# Altium footprint library 29_to_100_Pin.PcbLib: 41 footprints (part 3 of 3)
Each footprint in its own frame and in the unit in brackets; x right, y up, seen from the top. Pads: shape width x height; smd on the part's side, far side on the other; paste and mask are expansions set on the pad; w line width, h text height; cw(c..) or ccw(c..) is an arc to the next point about the centre after c.
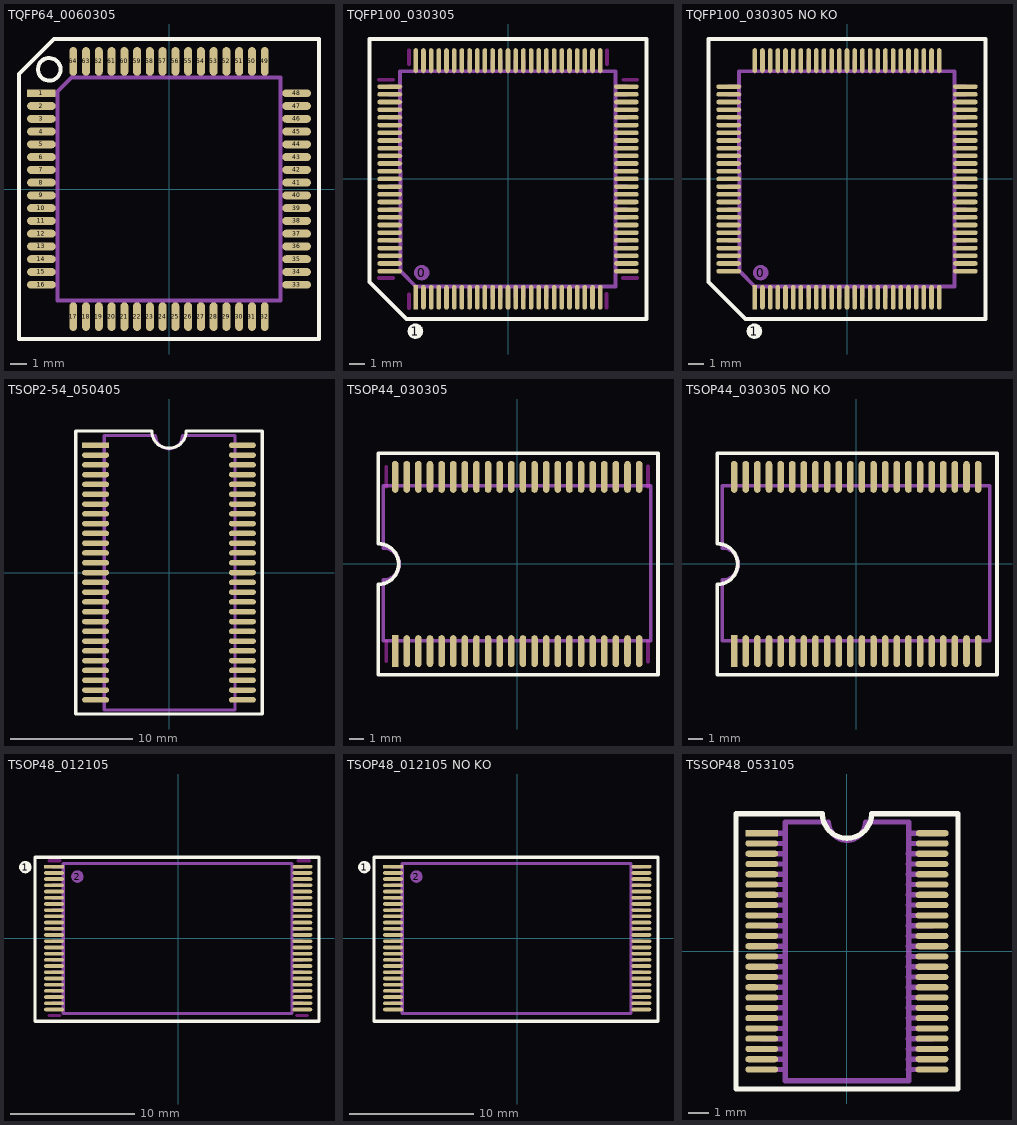
[diagram p2: the footprints below, top view; thin cyan lines are the x and y axes]

## TQFP64_0060305 [mm] "SMT"
height 1.27
pads (64):
  rect 1.8x0.5 smd mask+0.038: 1(-8,6)
  oval 1.8x0.5 smd mask+0.038: 2(-8,5.2) 3(-8,4.4) 4(-8,3.6) 5(-8,2.8) 6(-8,2) 7(-8,1.2) 8(-8,0.4) 9(-8,-0.4) 10(-8,-1.2) 11(-8,-2) 12(-8,-2.8) 13(-8,-3.6) 14(-8,-4.4) 15(-8,-5.2) 16(-8,-6) 33(8,-6) 34(8,-5.2) 35(8,-4.4) 36(8,-3.6) 37(8,-2.8) 38(8,-2) 39(8,-1.2) 40(8,-0.4) 41(8,0.4) 42(8,1.2) 43(8,2) 44(8,2.8) 45(8,3.6) 46(8,4.4) 47(8,5.2) 48(8,6)
  oval 0.5x1.8 smd mask+0.038: 17(-6,-8) 18(-5.2,-8) 19(-4.4,-8) 20(-3.6,-8) 21(-2.8,-8) 22(-2,-8) 23(-1.2,-8) 24(-0.4,-8) 25(0.4,-8) 26(1.2,-8) 27(2,-8) 28(2.8,-8) 29(3.6,-8) 30(4.4,-8) 31(5.2,-8) 32(6,-8) 49(6,8) 50(5.2,8) 51(4.4,8) 52(3.6,8) 53(2.8,8) 54(2,8) 55(1.2,8) 56(0.4,8) 57(-0.4,8) 58(-1.2,8) 59(-2,8) 60(-2.8,8) 61(-3.6,8) 62(-4.4,8) 63(-5.2,8) 64(-6,8)
Top Overlay:
  circle w0.254: c-7.507,7.5 r0.707
  lines w0.254: -9.4,-9.4 -9.4,0 -9.4,7.2 -7.2,9.4 0,9.4 9.4,9.4 9.4,0 9.4,-9.4 0,-9.4 -9.4,-9.4
Assembly:
  lines w0.254: -8,-6 -7,-6 ; -8,-5.2 -7,-5.2 ; -8,-4.4 -7,-4.4 ; -8,-3.6 -7,-3.6 ; -8,-2.8 -7,-2.8 ; -8,-2 -7,-2 ; -8,-1.2 -7,-1.2 ; -8,-0.4 -7,-0.4 ; -8,0.4 -7,0.4 ; -8,1.2 -7,1.2 ; -8,2 -7,2 ; -8,2.8 -7,2.8 ; -8,3.6 -7,3.6 ; -8,4.4 -7,4.4 ; -8,5.2 -7,5.2 ; -8,6 -7,6 ; -6,-8 -6,-7 ; -6,7 -6,8 ; -5.2,-8 -5.2,-7 ; -5.2,7 -5.2,8 ; -4.4,-8 -4.4,-7 ; -4.4,7 -4.4,8 ; -3.6,-8 -3.6,-7 ; -3.6,7 -3.6,8 ; -2.8,-8 -2.8,-7 ; -2.8,7 -2.8,8 ; -2,-8 -2,-7 ; -2,7 -2,8 ; -1.2,-8 -1.2,-7 ; -1.2,7 -1.2,8 ; -0.4,-8 -0.4,-7 ; -0.4,7 -0.4,8 ; 0.4,-8 0.4,-7 ; 0.4,7 0.4,8 ; 1.2,-8 1.2,-7 ; 1.2,7 1.2,8 ; 2,-8 2,-7 ; 2,7 2,8 ; 2.8,-8 2.8,-7 ; 2.8,7 2.8,8 ; 3.6,-8 3.6,-7 ; 3.6,7 3.6,8 ; 4.4,-8 4.4,-7 ; 4.4,7 4.4,8 ; 5.2,-8 5.2,-7 ; 5.2,7 5.2,8 ; 6,-8 6,-7 ; 6,7 6,8 ; 7,-6 8,-6 ; 7,-5.2 8,-5.2 ; 7,-4.4 8,-4.4 ; 7,-3.6 8,-3.6 ; 7,-2.8 8,-2.8 ; 7,-2 8,-2 ; 7,-1.2 8,-1.2 ; 7,-0.4 8,-0.4 ; 7,0 7,-7 ; 7,0.4 8,0.4 ; 7,1.2 8,1.2 ; 7,2 8,2 ; 7,2.8 8,2.8 ; 7,3.6 8,3.6 ; 7,4.4 8,4.4 ; 7,5.2 8,5.2 ; 7,6 8,6 ; 7,-7 7,7 -6.1,7 -7,6.1 -7,5.7 -7,-7 7,-7
Assembly Designator:
  text ".Designator" at -1.93,-0.635 h1.52
Assembly Comment:
  text ".Comment" at -6.223,-3.175 h1.52

## TQFP100_030305 [mm] "SM FP"
height 1.27
pads (102):
  round 1.016 on Mech1 mask+0.038: 0(-5.613,-6.096)
  round 1.016 on Top Overlay mask+0.038: 1(-6.02,-9.906)
  rect 0.3x1.6 smd mask+0.038: 1(-6,-7.7)
  oval 0.3x1.6 smd mask+0.038: 2(-5.5,-7.7) 3(-5,-7.7) 4(-4.5,-7.7) 5(-4,-7.7) 6(-3.5,-7.7) 7(-3,-7.7) 8(-2.5,-7.7) 9(-2,-7.7) 10(-1.5,-7.7) 11(-1,-7.7) 12(-0.5,-7.7) 13(0,-7.7) 14(0.5,-7.7) 15(1,-7.7) 16(1.5,-7.7) 17(2,-7.7) 18(2.5,-7.7) 19(3,-7.7) 20(3.5,-7.7) 21(4,-7.7) 22(4.5,-7.7) 23(5,-7.7) 24(5.5,-7.7) 25(6,-7.7) 51(6,7.7) 52(5.5,7.7) 53(5,7.7) 54(4.5,7.7) 55(4,7.7) 56(3.5,7.7) 57(3,7.7) 58(2.5,7.7) 59(2,7.7) 60(1.5,7.7) 61(1,7.7) 62(0.5,7.7) 63(0,7.7) 64(-0.5,7.7) 65(-1,7.7) 66(-1.5,7.7) 67(-2,7.7) 68(-2.5,7.7) 69(-3,7.7) 70(-3.5,7.7) 71(-4,7.7) 72(-4.5,7.7) 73(-5,7.7) 74(-5.5,7.7) 75(-6,7.7)
  oval 1.6x0.3 smd mask+0.038: 26(7.7,-6) 27(7.7,-5.5) 28(7.7,-5) 29(7.7,-4.5) 30(7.7,-4) 31(7.7,-3.5) 32(7.7,-3) 33(7.7,-2.5) 34(7.7,-2) 35(7.7,-1.5) 36(7.7,-1) 37(7.7,-0.5) 38(7.7,0) 39(7.7,0.5) 40(7.7,1) 41(7.7,1.5) 42(7.7,2) 43(7.7,2.5) 44(7.7,3) 45(7.7,3.5) 46(7.7,4) 47(7.7,4.5) 48(7.7,5) 49(7.7,5.5) 50(7.7,6) 76(-7.7,6) 77(-7.7,5.5) 78(-7.7,5) 79(-7.7,4.5) 80(-7.7,4) 81(-7.7,3.5) 82(-7.7,3) 83(-7.7,2.5) 84(-7.7,2) 85(-7.7,1.5) 86(-7.7,1) 87(-7.7,0.5) 88(-7.7,0) 89(-7.7,-0.5) 90(-7.7,-1) 91(-7.7,-1.5) 92(-7.7,-2) 93(-7.7,-2.5) 94(-7.7,-3) 95(-7.7,-3.5) 96(-7.7,-4) 97(-7.7,-4.5) 98(-7.7,-5) 99(-7.7,-5.5) 100(-7.7,-6)
Top Layer keep-out:
  lines w0.254: -8.382,-6.452 -7.493,-6.452 ; -8.382,6.452 -7.493,6.452 ; -6.452,-8.407 -6.452,-7.518 ; -6.452,7.468 -6.452,8.357 ; 6.401,-8.382 6.401,-7.493 ; 6.452,7.468 6.452,8.357 ; 7.493,-6.452 8.382,-6.452 ; 7.518,6.452 8.407,6.452
Top Overlay:
  lines w0.254: -9,-5.9 -9,9.1 9,9.1 9,-9.1 -6.6,-9.1 -9,-6.7 -9,-4.5
Assembly:
  lines w0.254: -7.7,-6 -6.998,-6 ; -7.7,-5.5 -6.998,-5.5 ; -7.7,-5 -6.998,-5 ; -7.7,-4.5 -6.998,-4.5 ; -7.7,-4 -6.998,-4 ; -7.7,-3.5 -6.998,-3.5 ; -7.7,-3 -6.998,-3 ; -7.7,-2.5 -6.998,-2.5 ; -7.7,-2 -6.998,-2 ; -7.7,-1.5 -6.998,-1.5 ; -7.7,-1 -6.998,-1 ; -7.7,-0.5 -6.998,-0.5 ; -7.7,0 -6.998,0 ; -7.7,0.5 -6.998,0.5 ; -7.7,1 -6.998,1 ; -7.7,1.5 -6.998,1.5 ; -7.7,2 -6.998,2 ; -7.7,2.5 -6.998,2.5 ; -7.7,3 -6.998,3 ; -7.7,3.5 -6.998,3.5 ; -7.7,4 -6.998,4 ; -7.7,4.5 -6.998,4.5 ; -7.7,5 -6.998,5 ; -7.7,5.5 -6.998,5.5 ; -7.7,6 -6.998,6 ; -6,-7.7 -6,-6.998 ; -6,6.998 -6,7.7 ; -5.5,-7.7 -5.5,-6.998 ; -5.5,6.998 -5.5,7.7 ; -5,-7.7 -5,-6.998 ; -5,6.998 -5,7.7 ; -4.5,-7.7 -4.5,-6.998 ; -4.5,6.998 -4.5,7.7 ; -4,-7.7 -4,-6.998 ; -4,6.998 -4,7.7 ; -3.5,-7.7 -3.5,-6.998 ; -3.5,6.998 -3.5,7.7 ; -3,-7.7 -3,-6.998 ; -3,6.998 -3,7.7 ; -2.5,-7.7 -2.5,-6.998 ; -2.5,6.998 -2.5,7.7 ; -2,-7.7 -2,-6.998 ; -2,6.998 -2,7.7 ; -1.5,-7.7 -1.5,-6.998 ; -1.5,6.998 -1.5,7.7 ; -1,-7.7 -1,-6.998 ; -1,6.998 -1,7.7 ; -0.5,-7.7 -0.5,-6.998 ; -0.5,6.998 -0.5,7.7 ; 0,-7.7 0,-6.998 ; 0,6.998 0,7.7 ; 0.5,-7.7 0.5,-6.998 ; 0.5,6.998 0.5,7.7 ; 1,-7.7 1,-6.998 ; 1,6.998 1,7.7 ; 1.5,-7.7 1.5,-6.998 ; 1.5,6.998 1.5,7.7 ; 2,-7.7 2,-6.998 ; 2,6.998 2,7.7 ; 2.5,6.998 2.5,7.7 ; 2.5,-7.7 2.5,-6.998 ; 3,-7.7 3,-6.998 ; 3,6.998 3,7.7 ; 3.5,-7.7 3.5,-6.998 ; 3.5,6.998 3.5,7.7 ; 4,-7.7 4,-6.998 ; 4,6.998 4,7.7 ; 4.5,-7.7 4.5,-6.998 ; 4.5,6.998 4.5,7.7 ; 5,-7.7 5,-6.998 ; 5,6.998 5,7.7 ; 5.5,-7.7 5.5,-6.998 ; 5.5,6.998 5.5,7.7 ; 6,-7.7 6,-6.998 ; 6,6.998 6,7.7 ; 6.998,-6 7.7,-6 ; 6.998,-5.5 7.7,-5.5 ; 6.998,-5 7.7,-5 ; 6.998,-4.5 7.7,-4.5 ; 6.998,-4 7.7,-4 ; 6.998,-3.5 7.7,-3.5 ; 6.998,-3 7.7,-3 ; 6.998,-2.5 7.7,-2.5 ; 6.998,-2 7.7,-2 ; 6.998,-1.5 7.7,-1.5 ; 6.998,-1 7.7,-1 ; 6.998,-0.5 7.7,-0.5 ; 6.998,0 7.7,0 ; 6.998,0.5 7.7,0.5 ; 6.998,1 7.7,1 ; 6.998,1.5 7.7,1.5 ; 6.998,2 7.7,2 ; 6.998,2.5 7.7,2.5 ; 6.998,3 7.7,3 ; 6.998,3.5 7.7,3.5 ; 6.998,4 7.7,4 ; 6.998,4.5 7.7,4.5 ; 6.998,5 7.7,5 ; 6.998,5.5 7.7,5.5 ; 6.998,6 7.7,6 ; -6.998,-6 -6,-6.998 ; -6.998,-6 -7.017,7.002 6.983,7.002 6.983,-6.998 -6,-6.998 ; -6,-6.998 -6,-6.998
Assembly Designator:
  text ".Designator" at -1.778,-0.635 h1.52
Assembly Comment:
  text ".Comment" at -5.867,-5.08 h1.52

## TQFP100_030305 NO KO [mm] "SM FP"
height 1.27
pads (102):
  round 1.016 on Mech1 mask+0.038: 0(-5.613,-6.096)
  round 1.016 on Top Overlay mask+0.038: 1(-6.02,-9.906)
  rect 0.3x1.6 smd mask+0.038: 1(-6,-7.7)
  oval 0.3x1.6 smd mask+0.038: 2(-5.5,-7.7) 3(-5,-7.7) 4(-4.5,-7.7) 5(-4,-7.7) 6(-3.5,-7.7) 7(-3,-7.7) 8(-2.5,-7.7) 9(-2,-7.7) 10(-1.5,-7.7) 11(-1,-7.7) 12(-0.5,-7.7) 13(0,-7.7) 14(0.5,-7.7) 15(1,-7.7) 16(1.5,-7.7) 17(2,-7.7) 18(2.5,-7.7) 19(3,-7.7) 20(3.5,-7.7) 21(4,-7.7) 22(4.5,-7.7) 23(5,-7.7) 24(5.5,-7.7) 25(6,-7.7) 51(6,7.7) 52(5.5,7.7) 53(5,7.7) 54(4.5,7.7) 55(4,7.7) 56(3.5,7.7) 57(3,7.7) 58(2.5,7.7) 59(2,7.7) 60(1.5,7.7) 61(1,7.7) 62(0.5,7.7) 63(0,7.7) 64(-0.5,7.7) 65(-1,7.7) 66(-1.5,7.7) 67(-2,7.7) 68(-2.5,7.7) 69(-3,7.7) 70(-3.5,7.7) 71(-4,7.7) 72(-4.5,7.7) 73(-5,7.7) 74(-5.5,7.7) 75(-6,7.7)
  oval 1.6x0.3 smd mask+0.038: 26(7.7,-6) 27(7.7,-5.5) 28(7.7,-5) 29(7.7,-4.5) 30(7.7,-4) 31(7.7,-3.5) 32(7.7,-3) 33(7.7,-2.5) 34(7.7,-2) 35(7.7,-1.5) 36(7.7,-1) 37(7.7,-0.5) 38(7.7,0) 39(7.7,0.5) 40(7.7,1) 41(7.7,1.5) 42(7.7,2) 43(7.7,2.5) 44(7.7,3) 45(7.7,3.5) 46(7.7,4) 47(7.7,4.5) 48(7.7,5) 49(7.7,5.5) 50(7.7,6) 76(-7.7,6) 77(-7.7,5.5) 78(-7.7,5) 79(-7.7,4.5) 80(-7.7,4) 81(-7.7,3.5) 82(-7.7,3) 83(-7.7,2.5) 84(-7.7,2) 85(-7.7,1.5) 86(-7.7,1) 87(-7.7,0.5) 88(-7.7,0) 89(-7.7,-0.5) 90(-7.7,-1) 91(-7.7,-1.5) 92(-7.7,-2) 93(-7.7,-2.5) 94(-7.7,-3) 95(-7.7,-3.5) 96(-7.7,-4) 97(-7.7,-4.5) 98(-7.7,-5) 99(-7.7,-5.5) 100(-7.7,-6)
Top Overlay:
  lines w0.254: -9,-5.9 -9,9.1 9,9.1 9,-9.1 -6.6,-9.1 -9,-6.7 -9,-4.5
Assembly:
  lines w0.254: -7.7,-6 -6.998,-6 ; -7.7,-5.5 -6.998,-5.5 ; -7.7,-5 -6.998,-5 ; -7.7,-4.5 -6.998,-4.5 ; -7.7,-4 -6.998,-4 ; -7.7,-3.5 -6.998,-3.5 ; -7.7,-3 -6.998,-3 ; -7.7,-2.5 -6.998,-2.5 ; -7.7,-2 -6.998,-2 ; -7.7,-1.5 -6.998,-1.5 ; -7.7,-1 -6.998,-1 ; -7.7,-0.5 -6.998,-0.5 ; -7.7,0 -6.998,0 ; -7.7,0.5 -6.998,0.5 ; -7.7,1 -6.998,1 ; -7.7,1.5 -6.998,1.5 ; -7.7,2 -6.998,2 ; -7.7,2.5 -6.998,2.5 ; -7.7,3 -6.998,3 ; -7.7,3.5 -6.998,3.5 ; -7.7,4 -6.998,4 ; -7.7,4.5 -6.998,4.5 ; -7.7,5 -6.998,5 ; -7.7,5.5 -6.998,5.5 ; -7.7,6 -6.998,6 ; -6,-7.7 -6,-6.998 ; -6,6.998 -6,7.7 ; -5.5,-7.7 -5.5,-6.998 ; -5.5,6.998 -5.5,7.7 ; -5,-7.7 -5,-6.998 ; -5,6.998 -5,7.7 ; -4.5,-7.7 -4.5,-6.998 ; -4.5,6.998 -4.5,7.7 ; -4,-7.7 -4,-6.998 ; -4,6.998 -4,7.7 ; -3.5,-7.7 -3.5,-6.998 ; -3.5,6.998 -3.5,7.7 ; -3,-7.7 -3,-6.998 ; -3,6.998 -3,7.7 ; -2.5,-7.7 -2.5,-6.998 ; -2.5,6.998 -2.5,7.7 ; -2,-7.7 -2,-6.998 ; -2,6.998 -2,7.7 ; -1.5,-7.7 -1.5,-6.998 ; -1.5,6.998 -1.5,7.7 ; -1,-7.7 -1,-6.998 ; -1,6.998 -1,7.7 ; -0.5,-7.7 -0.5,-6.998 ; -0.5,6.998 -0.5,7.7 ; 0,-7.7 0,-6.998 ; 0,6.998 0,7.7 ; 0.5,-7.7 0.5,-6.998 ; 0.5,6.998 0.5,7.7 ; 1,-7.7 1,-6.998 ; 1,6.998 1,7.7 ; 1.5,-7.7 1.5,-6.998 ; 1.5,6.998 1.5,7.7 ; 2,-7.7 2,-6.998 ; 2,6.998 2,7.7 ; 2.5,6.998 2.5,7.7 ; 2.5,-7.7 2.5,-6.998 ; 3,-7.7 3,-6.998 ; 3,6.998 3,7.7 ; 3.5,-7.7 3.5,-6.998 ; 3.5,6.998 3.5,7.7 ; 4,-7.7 4,-6.998 ; 4,6.998 4,7.7 ; 4.5,-7.7 4.5,-6.998 ; 4.5,6.998 4.5,7.7 ; 5,-7.7 5,-6.998 ; 5,6.998 5,7.7 ; 5.5,-7.7 5.5,-6.998 ; 5.5,6.998 5.5,7.7 ; 6,-7.7 6,-6.998 ; 6,6.998 6,7.7 ; 6.998,-6 7.7,-6 ; 6.998,-5.5 7.7,-5.5 ; 6.998,-5 7.7,-5 ; 6.998,-4.5 7.7,-4.5 ; 6.998,-4 7.7,-4 ; 6.998,-3.5 7.7,-3.5 ; 6.998,-3 7.7,-3 ; 6.998,-2.5 7.7,-2.5 ; 6.998,-2 7.7,-2 ; 6.998,-1.5 7.7,-1.5 ; 6.998,-1 7.7,-1 ; 6.998,-0.5 7.7,-0.5 ; 6.998,0 7.7,0 ; 6.998,0.5 7.7,0.5 ; 6.998,1 7.7,1 ; 6.998,1.5 7.7,1.5 ; 6.998,2 7.7,2 ; 6.998,2.5 7.7,2.5 ; 6.998,3 7.7,3 ; 6.998,3.5 7.7,3.5 ; 6.998,4 7.7,4 ; 6.998,4.5 7.7,4.5 ; 6.998,5 7.7,5 ; 6.998,5.5 7.7,5.5 ; 6.998,6 7.7,6 ; -6.998,-6 -7.017,7.002 6.983,7.002 6.983,-6.998 -6,-6.998 ; -6.998,-6 -6,-6.998 ; -6,-6.998 -6,-6.998
Assembly Designator:
  text ".Designator" at -1.778,-0.635 h1.52
Assembly Comment:
  text ".Comment" at -5.867,-5.08 h1.52

## TSOP2-54_050405 [mm] "SMT"
height 1.905
pads (54):
  rect 2.2x0.45 smd mask+0.038: 1(-6,10.4)
  oval 2.2x0.45 smd mask+0.038: 2(-6,9.6) 3(-6,8.8) 4(-6,8) 5(-6,7.2) 6(-6,6.4) 7(-6,5.6) 8(-6,4.8) 9(-6,4) 10(-6,3.2) 11(-6,2.4) 12(-6,1.6) 13(-6,0.8) 14(-6,0) 15(-6,-0.8) 16(-6,-1.6) 17(-6,-2.4) 18(-6,-3.2) 19(-6,-4) 20(-6,-4.8) 21(-6,-5.6) 22(-6,-6.4) 23(-6,-7.2) 24(-6,-8) 25(-6,-8.8) 26(-6,-9.6) 27(-6,-10.4) 28(6,-10.4) 29(6,-9.6) 30(6,-8.8) 31(6,-8) 32(6,-7.2) 33(6,-6.4) 34(6,-5.6) 35(6,-4.8) 36(6,-4) 37(6,-3.2) 38(6,-2.4) 39(6,-1.6) 40(6,-0.8) 41(6,0) 42(6,0.8) 43(6,1.6) 44(6,2.4) 45(6,3.2) 46(6,4) 47(6,4.8) 48(6,5.6) 49(6,6.4) 50(6,7.2) 51(6,8) 52(6,8.8) 53(6,9.6) 54(6,10.4)
Top Overlay:
  lines w0.254: -7.62,-11.543 7.62,-11.557 7.62,11.303 7.62,11.557 1.397,11.557 cw(c-0.003,11.557) -1.403,11.557 -7.62,11.557 -7.62,-11.543
Assembly:
  lines w0.254: -5.289,-11.241 5.379,-11.241 5.379,11.213 1.1,11.213 cw(c0,11.213) -1.1,11.213 -5.289,11.213 -5.289,-11.241
  lines w0.305: -6.3,-10.4 -5.386,-10.4 ; -6.3,-9.6 -5.386,-9.6 ; -6.3,-8.8 -5.386,-8.8 ; -6.3,-8 -5.386,-8 ; -6.3,-7.2 -5.386,-7.2 ; -6.3,-6.4 -5.386,-6.4 ; -6.3,-5.6 -5.386,-5.6 ; -6.3,-4.8 -5.386,-4.8 ; -6.3,-4 -5.386,-4 ; -6.3,-3.2 -5.386,-3.2 ; -6.3,-2.4 -5.386,-2.4 ; -6.3,-1.6 -5.386,-1.6 ; -6.3,-0.8 -5.386,-0.8 ; -6.3,0 -5.386,0 ; -6.3,0.8 -5.386,0.8 ; -6.3,1.6 -5.386,1.6 ; -6.3,2.4 -5.386,2.4 ; -6.3,3.2 -5.386,3.2 ; -6.3,4 -5.386,4 ; -6.3,4.8 -5.386,4.8 ; -6.3,5.6 -5.386,5.6 ; -6.3,6.4 -5.386,6.4 ; -6.3,7.2 -5.386,7.2 ; -6.3,8 -5.386,8 ; -6.3,8.8 -5.386,8.8 ; -6.3,9.6 -5.386,9.6 ; -6.3,10.4 -5.386,10.4 ; 5.486,-10.4 6.4,-10.4 ; 5.486,-9.6 6.4,-9.6 ; 5.486,-8.8 6.4,-8.8 ; 5.486,-8 6.4,-8 ; 5.486,-7.2 6.4,-7.2 ; 5.486,-6.4 6.4,-6.4 ; 5.486,-5.6 6.4,-5.6 ; 5.486,-4.8 6.4,-4.8 ; 5.486,-4 6.4,-4 ; 5.486,-3.2 6.4,-3.2 ; 5.486,-2.4 6.4,-2.4 ; 5.486,-1.6 6.4,-1.6 ; 5.486,-0.8 6.4,-0.8 ; 5.486,0 6.4,0 ; 5.486,0.8 6.4,0.8 ; 5.486,1.6 6.4,1.6 ; 5.486,2.4 6.4,2.4 ; 5.486,3.2 6.4,3.2 ; 5.486,4 6.4,4 ; 5.486,4.8 6.4,4.8 ; 5.486,5.6 6.4,5.6 ; 5.486,6.4 6.4,6.4 ; 5.486,7.2 6.4,7.2 ; 5.486,8 6.4,8 ; 5.486,8.8 6.4,8.8 ; 5.486,9.6 6.4,9.6 ; 5.486,10.4 6.4,10.4
Assembly Designator:
  text ".Designator" at -1.397,0.025 h1.02
Assembly Comment:
  text ".Comment" at -0.635,3.759 h1.02

## TSOP44_030305 [mm] "SMT"
height 1.27
pads (44):
  rect 0.45x2.2 smd mask+0.038: 1(-8.4,-6)
  oval 0.45x2.2 smd mask+0.038: 2(-7.6,-6) 3(-6.8,-6) 4(-6,-6) 5(-5.2,-6) 6(-4.4,-6) 7(-3.6,-6) 8(-2.8,-6) 9(-2,-6) 10(-1.2,-6) 11(-0.4,-6) 12(0.4,-6) 13(1.2,-6) 14(2,-6) 15(2.8,-6) 16(3.6,-6) 17(4.4,-6) 18(5.2,-6) 19(6,-6) 20(6.8,-6) 21(7.6,-6) 22(8.4,-6) 23(8.4,6) 24(7.6,6) 25(6.8,6) 26(6,6) 27(5.2,6) 28(4.4,6) 29(3.6,6) 30(2.8,6) 31(2,6) 32(1.2,6) 33(0.4,6) 34(-0.4,6) 35(-1.2,6) 36(-2,6) 37(-2.8,6) 38(-3.6,6) 39(-4.4,6) 40(-5.2,6) 41(-6,6) 42(-6.8,6) 43(-7.6,6) 44(-8.4,6)
Top Layer keep-out:
  lines w0.254: -9.017,-6.706 -9.017,-5.309 ; -9.017,5.309 -9.017,6.706 ; 9.017,-6.731 9.017,-5.334 ; 9.017,5.334 9.017,6.731
Top Overlay:
  lines w0.254: -9.557,-7.62 -9.557,-1.403 ccw(c-9.557,-0.003) -9.557,1.397 -9.557,7.62 -9.303,7.62 9.7,7.62 9.7,-7.62 -9.557,-7.62
Assembly:
  lines w0.254: -9.213,-5.289 -9.213,-1.1 ccw(c-9.213,0) -9.213,1.1 -9.213,5.379 9.2,5.379 9.2,-5.289 -9.213,-5.289
  lines w0.305: -8.4,-6.3 -8.4,-5.386 ; -8.4,5.486 -8.4,6.4 ; -7.6,-6.3 -7.6,-5.386 ; -7.6,5.486 -7.6,6.4 ; -6.8,-6.3 -6.8,-5.386 ; -6.8,5.486 -6.8,6.4 ; -6,-6.3 -6,-5.386 ; -6,5.486 -6,6.4 ; -5.2,-6.3 -5.2,-5.386 ; -5.2,5.486 -5.2,6.4 ; -4.4,-6.3 -4.4,-5.386 ; -4.4,5.486 -4.4,6.4 ; -3.6,-6.3 -3.6,-5.386 ; -3.6,5.486 -3.6,6.4 ; -2.8,-6.3 -2.8,-5.386 ; -2.8,5.486 -2.8,6.4 ; -2,-6.3 -2,-5.386 ; -2,5.486 -2,6.4 ; -1.2,-6.3 -1.2,-5.386 ; -1.2,5.486 -1.2,6.4 ; -0.4,-6.3 -0.4,-5.386 ; -0.4,5.486 -0.4,6.4 ; 0.4,-6.3 0.4,-5.386 ; 0.4,5.486 0.4,6.4 ; 1.2,-6.3 1.2,-5.386 ; 1.2,5.486 1.2,6.4 ; 2,-6.3 2,-5.386 ; 2,5.486 2,6.4 ; 2.8,-6.3 2.8,-5.386 ; 2.8,5.486 2.8,6.4 ; 3.6,-6.3 3.6,-5.386 ; 3.6,5.486 3.6,6.4 ; 4.4,-6.3 4.4,-5.386 ; 4.4,5.486 4.4,6.4 ; 5.2,-6.3 5.2,-5.386 ; 5.2,5.486 5.2,6.4 ; 6,-6.3 6,-5.386 ; 6,5.486 6,6.4 ; 6.8,-6.3 6.8,-5.386 ; 6.8,5.486 6.8,6.4 ; 7.6,-6.3 7.6,-5.386 ; 7.6,5.486 7.6,6.4 ; 8.4,-6.3 8.4,-5.386 ; 8.4,5.486 8.4,6.4
Assembly Designator:
  text ".Designator" at -1.88,-0.33 h1.02
Assembly Comment:
  text ".Comment" at -8.179,-4.064 h1.02

## TSOP44_030305 NO KO [mm] "SMT"
height 1.27
pads (44):
  rect 0.45x2.2 smd mask+0.038: 1(-8.4,-6)
  oval 0.45x2.2 smd mask+0.038: 2(-7.6,-6) 3(-6.8,-6) 4(-6,-6) 5(-5.2,-6) 6(-4.4,-6) 7(-3.6,-6) 8(-2.8,-6) 9(-2,-6) 10(-1.2,-6) 11(-0.4,-6) 12(0.4,-6) 13(1.2,-6) 14(2,-6) 15(2.8,-6) 16(3.6,-6) 17(4.4,-6) 18(5.2,-6) 19(6,-6) 20(6.8,-6) 21(7.6,-6) 22(8.4,-6) 23(8.4,6) 24(7.6,6) 25(6.8,6) 26(6,6) 27(5.2,6) 28(4.4,6) 29(3.6,6) 30(2.8,6) 31(2,6) 32(1.2,6) 33(0.4,6) 34(-0.4,6) 35(-1.2,6) 36(-2,6) 37(-2.8,6) 38(-3.6,6) 39(-4.4,6) 40(-5.2,6) 41(-6,6) 42(-6.8,6) 43(-7.6,6) 44(-8.4,6)
Top Overlay:
  lines w0.254: -9.557,-7.62 -9.557,-1.403 ccw(c-9.557,-0.003) -9.557,1.397 -9.557,7.62 -9.303,7.62 9.7,7.62 9.7,-7.62 -9.557,-7.62
Assembly:
  lines w0.254: -9.213,-5.289 -9.213,-1.1 ccw(c-9.213,0) -9.213,1.1 -9.213,5.379 9.2,5.379 9.2,-5.289 -9.213,-5.289
  lines w0.305: -8.4,-6.3 -8.4,-5.386 ; -8.4,5.486 -8.4,6.4 ; -7.6,-6.3 -7.6,-5.386 ; -7.6,5.486 -7.6,6.4 ; -6.8,-6.3 -6.8,-5.386 ; -6.8,5.486 -6.8,6.4 ; -6,-6.3 -6,-5.386 ; -6,5.486 -6,6.4 ; -5.2,-6.3 -5.2,-5.386 ; -5.2,5.486 -5.2,6.4 ; -4.4,-6.3 -4.4,-5.386 ; -4.4,5.486 -4.4,6.4 ; -3.6,-6.3 -3.6,-5.386 ; -3.6,5.486 -3.6,6.4 ; -2.8,-6.3 -2.8,-5.386 ; -2.8,5.486 -2.8,6.4 ; -2,-6.3 -2,-5.386 ; -2,5.486 -2,6.4 ; -1.2,-6.3 -1.2,-5.386 ; -1.2,5.486 -1.2,6.4 ; -0.4,-6.3 -0.4,-5.386 ; -0.4,5.486 -0.4,6.4 ; 0.4,-6.3 0.4,-5.386 ; 0.4,5.486 0.4,6.4 ; 1.2,-6.3 1.2,-5.386 ; 1.2,5.486 1.2,6.4 ; 2,-6.3 2,-5.386 ; 2,5.486 2,6.4 ; 2.8,-6.3 2.8,-5.386 ; 2.8,5.486 2.8,6.4 ; 3.6,-6.3 3.6,-5.386 ; 3.6,5.486 3.6,6.4 ; 4.4,-6.3 4.4,-5.386 ; 4.4,5.486 4.4,6.4 ; 5.2,-6.3 5.2,-5.386 ; 5.2,5.486 5.2,6.4 ; 6,-6.3 6,-5.386 ; 6,5.486 6,6.4 ; 6.8,-6.3 6.8,-5.386 ; 6.8,5.486 6.8,6.4 ; 7.6,-6.3 7.6,-5.386 ; 7.6,5.486 7.6,6.4 ; 8.4,-6.3 8.4,-5.386 ; 8.4,5.486 8.4,6.4
Assembly Designator:
  text ".Designator" at -1.88,-0.33 h1.02
Assembly Comment:
  text ".Comment" at -8.179,-4.064 h1.02

## TSOP48_012105 [mm] "SMT FP"
height 1.27
pads (50):
  round 1.016 on Top Overlay mask+0.038: 1(-12.319,5.715)
  rect 1.6x0.3 smd mask+0.038: 1(-10.008,5.75)
  oval 1.6x0.3 smd mask+0.038: 2(-10.008,5.25) 3(-10.008,4.75) 4(-10.008,4.25) 5(-10.008,3.75) 6(-10.008,3.25) 7(-10.008,2.75) 8(-10.008,2.25) 9(-10.008,1.75) 10(-10.008,1.25) 11(-10.008,0.75) 12(-10.008,0.25) 13(-10.008,-0.25) 14(-10.008,-0.75) 15(-10.008,-1.25) 16(-10.008,-1.75) 17(-10.008,-2.25) 18(-10.008,-2.75) 19(-10.008,-3.25) 20(-10.008,-3.75) 21(-10.008,-4.25) 22(-10.008,-4.75) 23(-10.008,-5.25) 24(-10.008,-5.75) 25(9.992,-5.75) 26(9.992,-5.25) 27(9.992,-4.75) 28(9.992,-4.25) 29(9.992,-3.75) 30(9.992,-3.25) 31(9.992,-2.75) 32(9.992,-2.25) 33(9.992,-1.75) 34(9.992,-1.25) 35(9.992,-0.75) 36(9.992,-0.25) 37(9.992,0.25) 38(9.992,0.75) 39(9.992,1.25) 40(9.992,1.75) 41(9.992,2.25) 42(9.992,2.75) 43(9.992,3.25) 44(9.992,3.75) 45(9.992,4.25) 46(9.992,4.75) 47(9.992,5.25) 48(10.008,5.75)
  round 1.016 on Mech1 mask+0.038: 2(-8.128,4.953)
Top Layer keep-out:
  lines w0.254: -10.414,-6.223 -9.525,-6.223 ; -10.414,6.223 -9.525,6.223 ; 9.525,-6.223 10.414,-6.223 ; 9.652,6.223 10.541,6.223
Top Overlay:
  lines w0.254: -11.532,-6.696 11.328,-6.696 11.328,6.512 10.439,6.512 -9.373,6.512 -11.532,6.512 -11.532,-6.315 -11.532,-6.696
Assembly:
  lines w0.254: -10.109,-5.75 -9.266,-5.75 ; -10.109,-5.25 -9.266,-5.25 ; -10.109,-4.75 -9.266,-4.75 ; -10.109,-4.25 -9.266,-4.25 ; -10.109,-3.75 -9.266,-3.75 ; -10.109,-3.25 -9.266,-3.25 ; -10.109,-2.75 -9.266,-2.75 ; -10.109,-2.25 -9.266,-2.25 ; -10.109,-1.75 -9.266,-1.75 ; -10.109,-1.25 -9.266,-1.25 ; -10.109,-0.75 -9.266,-0.75 ; -10.109,-0.25 -9.266,-0.25 ; -10.109,0.25 -9.266,0.25 ; -10.109,0.75 -9.266,0.75 ; -10.109,1.25 -9.266,1.25 ; -10.109,1.75 -9.266,1.75 ; -10.109,2.25 -9.266,2.25 ; -10.109,2.75 -9.266,2.75 ; -10.109,3.25 -9.266,3.25 ; -10.109,3.75 -9.266,3.75 ; -10.109,4.25 -9.266,4.25 ; -10.109,4.75 -9.266,4.75 ; -10.109,5.25 -9.266,5.25 ; -10.109,5.75 -9.266,5.75 ; 9.149,-5.75 9.992,-5.75 ; 9.149,-5.25 9.992,-5.25 ; 9.149,-4.75 9.992,-4.75 ; 9.149,-4.25 9.992,-4.25 ; 9.149,-3.75 9.992,-3.75 ; 9.149,-3.25 9.992,-3.25 ; 9.149,-2.75 9.992,-2.75 ; 9.149,-2.25 9.992,-2.25 ; 9.149,-1.75 9.992,-1.75 ; 9.149,-1.25 9.992,-1.25 ; 9.149,-0.75 9.992,-0.75 ; 9.149,-0.25 9.992,-0.25 ; 9.149,0.25 9.992,0.25 ; 9.149,0.75 9.992,0.75 ; 9.149,1.25 9.992,1.25 ; 9.149,1.75 9.992,1.75 ; 9.149,2.25 9.992,2.25 ; 9.149,2.75 9.992,2.75 ; 9.149,3.25 9.992,3.25 ; 9.149,3.75 9.992,3.75 ; 9.149,4.25 9.992,4.25 ; 9.149,4.75 9.992,4.75 ; 9.149,5.25 9.992,5.25 ; 9.149,5.75 9.992,5.75 ; -9.266,-6.067 9.149,-6.067 9.149,5.998 -9.266,5.998 -9.266,-6.067
Assembly Designator:
  text ".Designator" at -1.397,4.064 h1.02
Assembly Comment:
  text ".Comment" at -8.001,-5.08 h1.02

## TSOP48_012105 NO KO [mm] "SMT FP"
height 1.27
pads (50):
  round 1.016 on Top Overlay mask+0.038: 1(-12.319,5.715)
  rect 1.6x0.3 smd mask+0.038: 1(-10.008,5.75)
  oval 1.6x0.3 smd mask+0.038: 2(-10.008,5.25) 3(-10.008,4.75) 4(-10.008,4.25) 5(-10.008,3.75) 6(-10.008,3.25) 7(-10.008,2.75) 8(-10.008,2.25) 9(-10.008,1.75) 10(-10.008,1.25) 11(-10.008,0.75) 12(-10.008,0.25) 13(-10.008,-0.25) 14(-10.008,-0.75) 15(-10.008,-1.25) 16(-10.008,-1.75) 17(-10.008,-2.25) 18(-10.008,-2.75) 19(-10.008,-3.25) 20(-10.008,-3.75) 21(-10.008,-4.25) 22(-10.008,-4.75) 23(-10.008,-5.25) 24(-10.008,-5.75) 25(9.992,-5.75) 26(9.992,-5.25) 27(9.992,-4.75) 28(9.992,-4.25) 29(9.992,-3.75) 30(9.992,-3.25) 31(9.992,-2.75) 32(9.992,-2.25) 33(9.992,-1.75) 34(9.992,-1.25) 35(9.992,-0.75) 36(9.992,-0.25) 37(9.992,0.25) 38(9.992,0.75) 39(9.992,1.25) 40(9.992,1.75) 41(9.992,2.25) 42(9.992,2.75) 43(9.992,3.25) 44(9.992,3.75) 45(9.992,4.25) 46(9.992,4.75) 47(9.992,5.25) 48(10.008,5.75)
  round 1.016 on Mech1 mask+0.038: 2(-8.128,4.953)
Top Overlay:
  lines w0.254: -11.532,-6.696 -11.532,-6.315 -11.532,6.512 -9.373,6.512 10.439,6.512 11.328,6.512 11.328,-6.696 -11.532,-6.696
Assembly:
  lines w0.254: -10.109,-5.75 -9.266,-5.75 ; -10.109,-5.25 -9.266,-5.25 ; -10.109,-4.75 -9.266,-4.75 ; -10.109,-4.25 -9.266,-4.25 ; -10.109,-3.75 -9.266,-3.75 ; -10.109,-3.25 -9.266,-3.25 ; -10.109,-2.75 -9.266,-2.75 ; -10.109,-2.25 -9.266,-2.25 ; -10.109,-1.75 -9.266,-1.75 ; -10.109,-1.25 -9.266,-1.25 ; -10.109,-0.75 -9.266,-0.75 ; -10.109,-0.25 -9.266,-0.25 ; -10.109,0.25 -9.266,0.25 ; -10.109,0.75 -9.266,0.75 ; -10.109,1.25 -9.266,1.25 ; -10.109,1.75 -9.266,1.75 ; -10.109,2.25 -9.266,2.25 ; -10.109,2.75 -9.266,2.75 ; -10.109,3.25 -9.266,3.25 ; -10.109,3.75 -9.266,3.75 ; -10.109,4.25 -9.266,4.25 ; -10.109,4.75 -9.266,4.75 ; -10.109,5.25 -9.266,5.25 ; -10.109,5.75 -9.266,5.75 ; 9.149,-5.75 9.992,-5.75 ; 9.149,-5.25 9.992,-5.25 ; 9.149,-4.75 9.992,-4.75 ; 9.149,-4.25 9.992,-4.25 ; 9.149,-3.75 9.992,-3.75 ; 9.149,-3.25 9.992,-3.25 ; 9.149,-2.75 9.992,-2.75 ; 9.149,-2.25 9.992,-2.25 ; 9.149,-1.75 9.992,-1.75 ; 9.149,-1.25 9.992,-1.25 ; 9.149,-0.75 9.992,-0.75 ; 9.149,-0.25 9.992,-0.25 ; 9.149,0.25 9.992,0.25 ; 9.149,0.75 9.992,0.75 ; 9.149,1.25 9.992,1.25 ; 9.149,1.75 9.992,1.75 ; 9.149,2.25 9.992,2.25 ; 9.149,2.75 9.992,2.75 ; 9.149,3.25 9.992,3.25 ; 9.149,3.75 9.992,3.75 ; 9.149,4.25 9.992,4.25 ; 9.149,4.75 9.992,4.75 ; 9.149,5.25 9.992,5.25 ; 9.149,5.75 9.992,5.75 ; -9.266,-6.067 -9.266,5.998 9.149,5.998 9.149,-6.067 -9.266,-6.067
Assembly Designator:
  text ".Designator" at -1.397,4.064 h1.02
Assembly Comment:
  text ".Comment" at -8.001,-5.08 h1.02

## TSSOP48_053105 [mm] "SMT FP"
height 1.2
pads (48):
  rect 1.6x0.3 smd mask+0.038: 1(-4.15,5.75)
  oval 1.6x0.3 smd mask+0.038: 2(-4.15,5.25) 3(-4.15,4.75) 4(-4.15,4.25) 5(-4.15,3.75) 6(-4.15,3.25) 7(-4.15,2.75) 8(-4.15,2.25) 9(-4.15,1.75) 10(-4.15,1.25) 11(-4.15,0.75) 12(-4.15,0.25) 13(-4.15,-0.25) 14(-4.15,-0.75) 15(-4.15,-1.25) 16(-4.15,-1.75) 17(-4.15,-2.25) 18(-4.15,-2.75) 19(-4.15,-3.25) 20(-4.15,-3.75) 21(-4.15,-4.25) 22(-4.15,-4.75) 23(-4.15,-5.25) 24(-4.15,-5.75) 25(4.135,-5.75) 26(4.135,-5.25) 27(4.135,-4.75) 28(4.135,-4.25) 29(4.135,-3.75) 30(4.135,-3.25) 31(4.135,-2.75) 32(4.135,-2.25) 33(4.135,-1.75) 34(4.135,-1.25) 35(4.135,-0.75) 36(4.135,-0.25) 37(4.135,0.25) 38(4.135,0.75) 39(4.135,1.25) 40(4.135,1.75) 41(4.135,2.25) 42(4.135,2.75) 43(4.135,3.25) 44(4.135,3.75) 45(4.135,4.25) 46(4.135,4.75) 47(4.15,5.25) 48(4.15,5.75)
Top Overlay:
  lines w0.254: -5.4,-6.7 -5.4,0 -5.4,6.7 -1.2,6.7 ccw(c0,6.7) 1.2,6.7 5.4,6.7 5.4,0 5.4,-6.7 0,-6.7 -5.4,-6.7
Assembly:
  lines w0.254: -4.15,-5.75 -3,-5.75 ; -4.15,-5.25 -3,-5.25 ; -4.15,-4.75 -3,-4.75 ; -4.15,-4.25 -3,-4.25 ; -4.15,-3.75 -3,-3.75 ; -4.15,-3.25 -3,-3.25 ; -4.15,-2.75 -3,-2.75 ; -4.15,-2.25 -3,-2.25 ; -4.15,-1.75 -3,-1.75 ; -4.15,-1.25 -3,-1.25 ; -4.15,-0.75 -3,-0.75 ; -4.15,-0.25 -3,-0.25 ; -4.15,0.25 -3,0.25 ; -4.15,0.75 -3,0.75 ; -4.15,1.25 -3,1.25 ; -4.15,1.75 -3,1.75 ; -4.15,2.25 -3,2.25 ; -4.15,2.75 -3,2.75 ; -4.15,3.25 -3,3.25 ; -4.15,3.75 -3,3.75 ; -4.15,4.25 -3,4.25 ; -4.15,4.75 -3,4.75 ; -4.15,5.25 -3,5.25 ; -4.15,5.75 -3,5.75 ; 2.985,-5.75 4.135,-5.75 ; 2.985,-5.25 4.135,-5.25 ; 2.985,-4.75 4.135,-4.75 ; 2.985,-4.25 4.135,-4.25 ; 2.985,-3.75 4.135,-3.75 ; 2.985,-3.25 4.135,-3.25 ; 2.985,-2.75 4.135,-2.75 ; 2.985,-2.25 4.135,-2.25 ; 2.985,-1.75 4.135,-1.75 ; 2.985,-1.25 4.135,-1.25 ; 2.985,-0.75 4.135,-0.75 ; 2.985,-0.25 4.135,-0.25 ; 2.985,0.25 4.135,0.25 ; 2.985,0.75 4.135,0.75 ; 2.985,1.25 4.135,1.25 ; 2.985,1.75 4.135,1.75 ; 2.985,2.25 4.135,2.25 ; 2.985,2.75 4.135,2.75 ; 2.985,3.25 4.135,3.25 ; 2.985,3.75 4.135,3.75 ; 2.985,4.25 4.135,4.25 ; 2.985,4.75 4.135,4.75 ; 3,5.25 4.15,5.25 ; 3,5.75 4.15,5.75 ; -3,-6.3 3,-6.3 3,0 3,6.3 0.9,6.3 cw(c0,6.3) -0.9,6.3 -3,6.3 -3,-6.3
Assembly Designator:
  text ".Designator" at -0.65,-0.05 h1.02
Assembly Comment:
  text ".Comment" at -4.1,-7.8 h1.02